# Altium schematic symbol library MyLibraryV2.SchLib: 572 symbols (part 4 of 11)
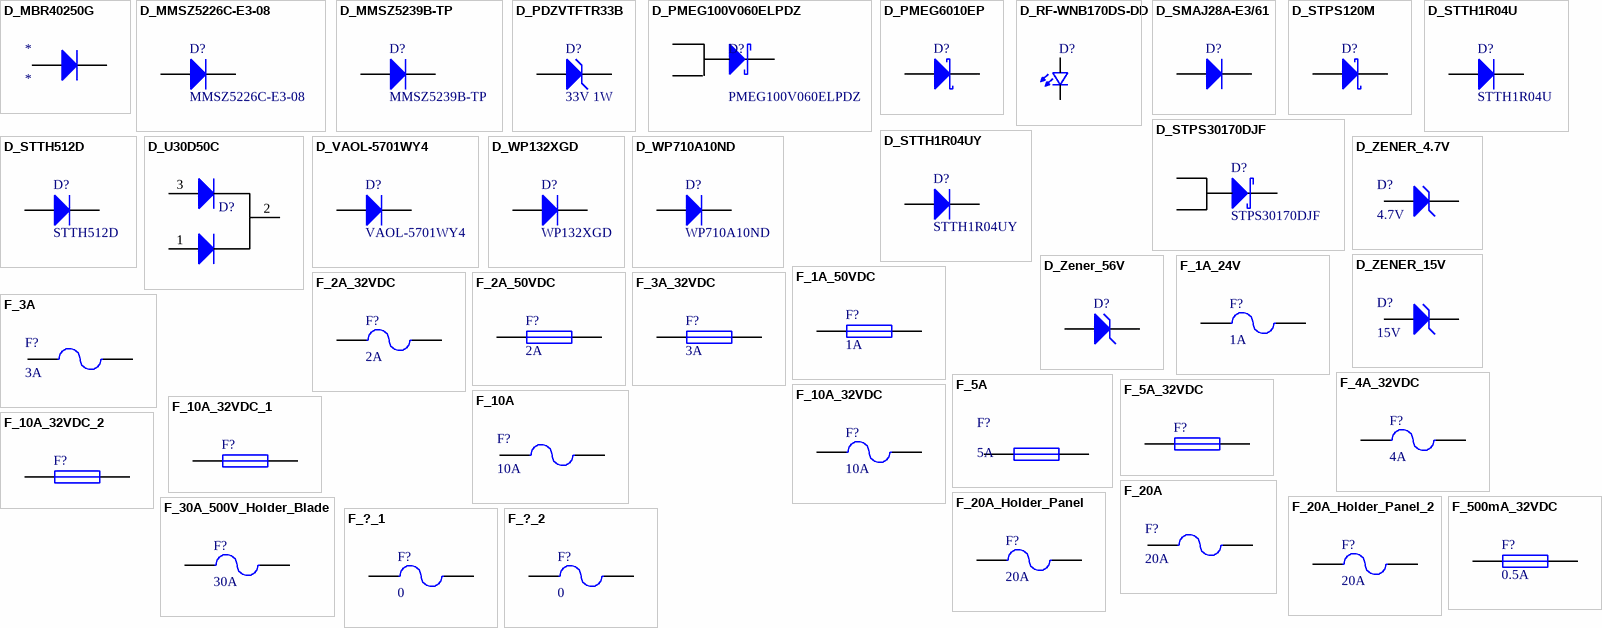
[diagram p19: symbols D_MBR40250G to F_?_2]

## D_PDZVTFTR33B
designator D?, comment 33V 1W
Diode SMD SOD-128; Manufacturer: Rohm; Manufacturer Part Number: PDZVTFTR33B; RoHS Compliant: Yes; ComponentLink1URL: http://www.farnell.com/datasheets/2721655.pdf?src-supplier=Farnell; ComponentLink1Description: http://www.farnell.com/datasheets/2721655.pdf?src-supplier=Farnell; ComponentLink2URL: https://www.rohm.com/datasheet/PDZVTF33B/pdzvtftr33b-e?src-supplier=Digikey; ComponentLink2Description: https://www.rohm.com/datasheet/PDZVTF33B/pdzvtftr33b-e?src-supplier=Digikey; Supplier 1: Digikey; Supplier Part Number 1: PDZVTFTR33BCT-ND; RoHS: Yes; Category: Zener Diodes; Stock 1: 6863; Pricing 1: 1=0,43, 10=0,336, 100=0,2018, 500=0,18684, 1000=0,12706 (USD); Value: 33V 1W
footprint D_SOD-128
pins: 1 K, 2 A

## D_PMEG100V060ELPDZ
designator D?, comment PMEG100V060ELPDZ
Diode SMD TO-277 SCHOTTKY 100V 6A CFP15; Manufacturer: Nexperia; Manufacturer Part Number: PMEG100V060ELPDAZ; RoHS Compliant: Yes; Supplier 1: Digikey; Supplier Part Number 1: 1727-7640-1-ND; RoHS: Yes; Category: Schottky Diodes; Stock 1: 11185; Pricing 1: 1=0,58, 10=0,504, 100=0,3491, 500=0,29166, 1000=0,24822, 2000=0,22107 (USD); Value: PMEG100V060ELPDZ
footprint D_TO-277_bigger (Diodo)
pins: 1 A "Anode", 2 A "Anode", 3 K "Cathode"

## D_PMEG6010EP
designator D?, comment PMEG6010EP  (value not drawn)
(Modificar) Diode Schottky; Value: PMEG6010EP
footprint D_DO-214AA_SMB
pins: 1 K, 2 A

## D_RF-WNB170DS-DD
designator D?, comment RF-WNB170DS-DD  (value not drawn)
Diode SMD 0805 LED; Manufacturer: Refond Optoelectronics; Viewing Angle: 140°; Supplier 1: Digikey; Supplier Part Number 1: 4784-RF-WNB170DS-DDCT-ND; Manufacturer Part Number: RF-WNB170DS-DD; RoHS: No; Category: Uncategorized; Stock 1: 88661; Pricing 1: 1=0,2, 10=0,108, 100=0,0512, 500=0,04378, 1000=0,03368, 2000=0,03166 (USD); Value: RF-WNB170DS-DD
footprint D_LED_0805_2013 (Chip Capacitor; Body 2.0 x 1.3 mm (LxW typ))
pins: 1 K2, 2 A2

## D_SMAJ28A-E3/61
designator D?, comment SMAJ28A-E3/61  (value not drawn)
Diode SMD DO-214AC_SMA; Manufacturer: Vishay Semiconductors; Origin: CHINA; Direction: Unidirectional; Reverse Breakdown Voltage: 31.1V; Number of Elements: 1; Operating Supply Voltage: 28V; Max Surge Current: 8.8A; Clamping Voltage: 45.4V; Peak Pulse Power: 400W; Test Current: 1mA; Max Reverse Leakage Current: 1uA; Max Forward Surge Current (Ifsm): 40A; Max Breakdown Voltage: 34.4V; Published: 8-Jun-2000; LatestRevisionDate: 17-Jul-2002; LatestRevisionNote: Re-released for DXP Platform.; PackageVersion: Sep-1996; PackageReference: SMC; Publisher: Altium Limited; PackageDescription: DO-214-AB/SMC; 2 C-Bend Leads; Body 7.9 x 5.9 mm, inc. leads (LxW); Code_JEDEC: DO-214-AB; Supplier 1: Digi-Key; Supplier Part Number 1: ES1ME-TPMSCT-ND; Case/Package: DO-214AC; Pins: 2; Min Operating Temperature: -55°C; Max Operating Temperature: 150°C; Package Quantity: 1800; Packaging: Tape and Reel; Reverse Standoff Voltage: 28V; Polarity: Unidirectional; Breakdown Voltage: 31.1V; Number of Channels: 1; Peak Pulse Current: 8.8A; Min Breakdown Voltage: 31.1V; Max Power Dissipation: 400W; Leakage Current: 1uA; Series: SMAJ; Termination: SMD/SMT; Power Dissipation: 400W; Voltage Rating (DC): 28V; Clamping Voltage-Max: 45.4V; Length: 4.5mm; Width: 2.79mm; Height: 2.09mm; Radiation Hardening: No; RoHS Compliant: Yes; Lead Free: Lead Free; Reach SVHC Compliant: Unknown; ComponentLink1URL: https://datasheet.ciiva.com/4247/2smaj50a-4247660.pdf?src-supplier=Arrow+Electronics; ComponentLink1Description: https://datasheet.ciiva.com/4247/2smaj50a-4247660.pdf?src-supplier=Arrow+Electronics; Supplier 2: Mouser; Supplier Part Number 2: 625-SMAJ28A-E3; Manufacturer Part Number: SMAJ28A-E3/61; RoHS: Yes; Category: TVS Diodes; Stock 2: 9105; Pricing 2: 1=0,41, 10=0,299, 50=0,299, 100=0,133, 1000=0,106, 10000=0,081 (USD); Value: SMAJ28A-E3/61
footprint D_DO-214AC_SMA
pins: 1 K, 2 A

## D_STPS120M
designator D?, comment STPS120M  (value not drawn)
(Modificar) Diode Schottky; Value: STPS120M
footprint D_DO-214AA_SMB
pins: 1 K, 2 A

## D_STPS30170DJF
designator D?, comment STPS30170DJF
Diode SMD TDSON8; Manufacturer: STMicroelectronics; Manufacturer Part Number: STPS30170DJF-TR; Forward Current: 30A; Max Reverse Current: 15uA; Max Repetitive Reverse Voltage (Vrrm): 170V; Peak Non-Repetitive Surge Current: 200A; Forward Voltage: 950mV; Max Reverse Leakage Current: 12mA; Mounting Technology: Surface Mount; Case/Package: SMD/SMT; Pins: 8; Min Operating Temperature: -65°C; Max Operating Temperature: 150°C; Max Surge Current: 200A; Packaging: Tape and Reel; Package Quantity: 1; Average Rectified Current: 30A; Max Forward Surge Current (Ifsm): 200A; Max Reverse Voltage (DC): 170V; Series: -; Radiation Hardening: No; Reach SVHC Compliant: No; Lead Free: Lead Free; RoHS Compliant: Yes; ComponentLink1URL: https://datasheet.ciiva.com/4714/cd00255367-116971-4714165.pdf?src-supplier=Mouser; ComponentLink1Description: https://datasheet.ciiva.com/4714/cd00255367-116971-4714165.pdf?src-supplier=Mouser; ComponentLink2URL: https://datasheet.ciiva.com/16217/cd00255367-16217713.pdf?src-supplier=Future+Electronics; ComponentLink2Description: https://datasheet.ciiva.com/16217/cd00255367-16217713.pdf?src-supplier=Future+Electronics; ComponentLink3URL: https://datasheet.ciiva.com/6381/cd00255367-6381471.pdf?src-supplier=Digikey; ComponentLink3Description: https://datasheet.ciiva.com/6381/cd00255367-6381471.pdf?src-supplier=Digikey; ComponentLink4URL: https://datasheet.ciiva.com/923/cd00255367-923446.pdf?src-supplier=Digikey; ComponentLink4Description: https://datasheet.ciiva.com/923/cd00255367-923446.pdf?src-supplier=Digikey; ComponentLink5URL: https://datasheet.ciiva.com/6381/cd00255367-6381468.pdf?src-supplier=Digikey; ComponentLink5Description: https://datasheet.ciiva.com/6381/cd00255367-6381468.pdf?src-supplier=Digikey; Supplier 1: Digikey; Supplier Part Number 1: 497-10344-1-ND; RoHS: Yes; Category: Rectifier Diodes; Stock 1: 3600; Pricing 1: 1=1,46, 10=1,192, 100=0,9273, 500=0,786, 1000=0,64028 (USD); Value: STPS30170DJF
footprint D_TDSON 8
pins: 1 A, 2 K, 3 A

## D_STTH1R04U
designator D?, comment STTH1R04U
(Modificar) iode SMD ultrafast recovery diode; Value: STTH1R04U
footprint STTH1R04
pins: 1 A, 2 K

## D_STTH1R04UY
designator D?, comment STTH1R04UY
Diode SMD DO-214AA_SMB; Manufacturer: STMicroelectronics; Forward Current: 1A; Max Reverse Current: 5uA; Max Surge Current: 30A; Reverse Voltage (DC): 400V; Reverse Recovery Time: 30ns; Forward Voltage: 1.6V; Recovery Time: 14ns; Mounting Technology: Surface Mount; Case/Package: SMB; Pins: 2; Weight: 0.00328oz; Min Operating Temperature: -40°C; Max Operating Temperature: 175°C; Package Quantity: 2500; Packaging: Tape and Reel; Average Rectified Current: 1A; Peak Non-Repetitive Surge Current: 30A; Max Repetitive Reverse Voltage (Vrrm): 400V; Max Reverse Voltage (DC): 400V; Series: -; Radiation Hardening: No; RoHS Compliant: Yes; ComponentLink1URL: https://datasheet.ciiva.com/29591/sgdiodeauto-29591754.pdf?src-supplier=Digikey; ComponentLink1Description: https://datasheet.ciiva.com/29591/sgdiodeauto-29591754.pdf?src-supplier=Digikey; ComponentLink2URL: https://datasheet.ciiva.com/29591/sgdiodeauto-29591755.pdf?src-supplier=Digikey; ComponentLink2Description: https://datasheet.ciiva.com/29591/sgdiodeauto-29591755.pdf?src-supplier=Digikey; ComponentLink3URL: https://datasheet.ciiva.com/29591/sgdiodeauto-29591756.pdf?src-supplier=Digikey; ComponentLink3Description: https://datasheet.ciiva.com/29591/sgdiodeauto-29591756.pdf?src-supplier=Digikey; Supplier 1: Mouser; Supplier Part Number 1: 511-STTH1R04UY; Manufacturer Part Number: STTH1R04UY; RoHS: Yes; Category: Rectifier Diodes; Stock 1: 5809; Pricing 1: 1=0,59, 10=0,475, 50=0,475, 100=0,35, 1000=0,222, 10000=0,174 (USD); Value: STTH1R04UY
footprint D_DO-214AA_SMB
pins: 1 K, 2 A

## D_STTH512D
designator D?, comment STTH512D
Diode SMD TO-220-AC; Manufacturer: STMicroelectronics; Forward Current: 5A; Max Reverse Current: 5uA; Reverse Recovery Time: 95ns; Max Repetitive Reverse Voltage (Vrrm): 1.2kV; Peak Non-Repetitive Surge Current: 55A; Forward Voltage: 2.2V; Polarity: Standard; Output Current: 30A; Mounting Technology: Through Hole; Case/Package: TO-220AC; Pins: 2; Min Operating Temperature: -65°C; Max Operating Temperature: 175°C; Max Surge Current: 55A; Packaging: Rail/Tube; Package Quantity: 50; Recovery Time: 95ns; Average Rectified Current: 5A; Max Forward Surge Current (Ifsm): 55A; Voltage Rating (DC): 1.2kV; Current Rating: 5A; Reverse Voltage: 1.2kV; Max Reverse Voltage (DC): 1.2kV; Series: -; Reverse Recovery Time-Max: 95ns; Length: 10.4mm; Width: 4.6mm; Height: 9.3mm; Reach SVHC Compliant: No; Lead Free: Lead Free; RoHS Compliant: Yes; ComponentLink1URL: https://datasheet.ciiva.com/916/cd00096465-916493.pdf?src-supplier=Digikey; ComponentLink1Description: https://datasheet.ciiva.com/916/cd00096465-916493.pdf?src-supplier=Digikey; ComponentLink2URL: https://datasheet.ciiva.com/14168/cd00096465-14168989.pdf?src-supplier=Distrelec; ComponentLink2Description: https://datasheet.ciiva.com/14168/cd00096465-14168989.pdf?src-supplier=Distrelec; ComponentLink3URL: https://datasheet.ciiva.com/7964/1887750-7964060.pdf?src-supplier=Element14; ComponentLink3Description: https://datasheet.ciiva.com/7964/1887750-7964060.pdf?src-supplier=Element14; Supplier 1: Mouser; Supplier Part Number 1: 511-STTH512D; Manufacturer Part Number: STTH512D; RoHS: Yes; Category: Rectifier Diodes; Stock 1: 4528; Pricing 1: 1=1,82, 10=1,51, 50=1,51, 100=1,21, 1000=0,762, 10000=0,744 (USD); Value: STTH512D
footprint D_TO-220-2-TO-220AC
pins: 1 K, 2 A

## D_U30D50C
designator D?, comment U30D50C  (value not drawn)
(Modificar) Diode Catodo Comun; Value: U30D50C
footprint TO-247-HORIZ
pins: 1 A, 2 K, 3 A

## D_VAOL-5701WY4
designator D?, comment VAOL-5701WY4
(Modificar) Diode THT LED 5MM; Manufacturer: Visual Communications; Color: White; Lens Color: Colorless,Clear; Luminous Intensity: 1800mcd; Viewing Angle: 100°; Forward Voltage: 3.5V; Lens Style: Dome,Round,Flat; Test Current: 20mA; Lens Transparency: Clear; Mounting Technology: Through Hole; Case/Package: Radial; Min Operating Temperature: -40°C; Max Operating Temperature: 80°C; Illumination Color: White; Packaging: Bulk; Forward Current: 20mA; Series: -; Height: 7.05mm; Lens Size: 5mm; RoHS Compliant: Yes; Reach SVHC Compliant: Unknown; ComponentLink1URL: https://datasheet.ciiva.com/29561/vaol-5701wy4-led-5mm-white-29561899.pdf?src-supplier=Digikey; ComponentLink1Description: https://datasheet.ciiva.com/29561/vaol-5701wy4-led-5mm-white-29561899.pdf?src-supplier=Digikey; ComponentLink2URL: https://datasheet.ciiva.com/7621/1780695-7621860.pdf?src-supplier=Element14; ComponentLink2Description: https://datasheet.ciiva.com/7621/1780695-7621860.pdf?src-supplier=Element14; Supplier 1: Digikey; Supplier Part Number 1: VAOL-5701WY4-ND; Manufacturer Part Number: VAOL-5701WY4; RoHS: Yes; Category: LEDs; Stock 1: 18314; Pricing 1: 1=0,94, 10=0,615, 100=0,403, 1000=0,31815, 5000=0,28634, 10000=0,28209 (USD); Value: VAOL-5701WY4
footprint D_LED-5MM
pins: 1 K, 2 A

## D_WP132XGD
designator D?, comment WP132XGD
Diode THT LED 3.8MM; Manufacturer: Kingbright; Color: Green; Luminous Intensity: 25mcd; Lens Style: Dome,Round,Domed,Diffused,Tinted; Viewing Angle: 60°; Forward Voltage: 2.2V; Dominant Wavelength: 568nm; Test Current: 20mA; Forward Current: 25mA; Lens Transparency: Diffused; Lens Size: 3mm; Mounting Technology: Through Hole; Case/Package: Radial; Pins: 1; Lens Color: Green; Min Operating Temperature: -40°C; Max Operating Temperature: 85°C; Package Quantity: 1000; Illumination Color: Green; Packaging: Bulk; Wavelength: 568nm; Series: -; Width: 3.8mm; Height: 5.2mm; Lead Free: Lead Free; RoHS Compliant: Yes; ComponentLink1URL: https://datasheet.ciiva.com/2114/wp132xgd-2114331.pdf?src-supplier=Digikey; ComponentLink1Description: https://datasheet.ciiva.com/2114/wp132xgd-2114331.pdf?src-supplier=Digikey; ComponentLink2URL: https://datasheet.ciiva.com/13501/wp132xgd-50469-13501752.pdf?src-supplier=Mouser; ComponentLink2Description: https://datasheet.ciiva.com/13501/wp132xgd-50469-13501752.pdf?src-supplier=Mouser; ComponentLink3URL: https://datasheet.ciiva.com/14604/70062928-14604013.pdf?src-supplier=Allied+Electronics; ComponentLink3Description: https://datasheet.ciiva.com/14604/70062928-14604013.pdf?src-supplier=Allied+Electronics; ComponentLink4URL: https://datasheet.ciiva.com/16393/wp132xgd-16393499.pdf?src-supplier=Future+Electronics; ComponentLink4Description: https://datasheet.ciiva.com/16393/wp132xgd-16393499.pdf?src-supplier=Future+Electronics; Supplier 1: Digikey; Supplier Part Number 1: 754-1210-ND; Manufacturer Part Number: WP132XGD; RoHS: Yes; Category: LEDs; Stock 1: 20772; Pricing 1: 1=0,34, 10=0,272, 100=0,1221, 2000=0,07878, 6000=0,0709, 10000=0,06302 (USD); Value: WP132XGD
footprint D_LED-3.8MM
pins: 1 K, 2 A

## D_WP710A10ND
designator D?, comment WP710A10ND
Diode THT LED 3.8MM; Manufacturer: Kingbright; Color: Orange; Forward Current: 20mA; Forward Voltage: 2.05V; Luminous Intensity: 20mcd; Lens Style: Dome,Round,Domed,Diffused,Tinted; Viewing Angle: 40°; Dominant Wavelength: 602nm; Lens Transparency: Diffused; Lens Size: 3mm; Mounting Technology: Through Hole; Case/Package: Radial; Lens Color: Orange; Min Operating Temperature: -40°C; Max Operating Temperature: 85°C; Packaging: Bulk; Package Quantity: 1000; Test Current: 20mA; Series: -; Illumination Color: Orange; Height: 5.9mm; RoHS Compliant: Yes; ComponentLink1URL: https://datasheet.ciiva.com/13500/wp710a10nd-8459-13500874.pdf?src-supplier=Mouser; ComponentLink1Description: https://datasheet.ciiva.com/13500/wp710a10nd-8459-13500874.pdf?src-supplier=Mouser; ComponentLink2URL: https://datasheet.ciiva.com/2120/wp710a10nd-2120872.pdf?src-supplier=Digikey; ComponentLink2Description: https://datasheet.ciiva.com/2120/wp710a10nd-2120872.pdf?src-supplier=Digikey; Supplier 1: Digikey; Supplier Part Number 1: 754-1892-ND; Manufacturer Part Number: WP710A10ND; RoHS: Yes; Category: LEDs; Stock 1: 2871; Pricing 1: 1=0,35, 10=0,279, 100=0,1252, 2000=0,0808, 6000=0,07272, 10000=0,06464 (USD); Value: WP710A10ND
footprint D_LED-3.8MM
pins: 1 K, 2 A

## D_ZENER_4.7V
designator D?, comment 4.7V
Value: 4.7V
footprint D_DO-41
pins: 1 K, 2 A

## D_ZENER_15V
designator D?, comment 15V
Value: 15V
footprint D_DO-41
pins: 1 K, 2 A

## D_Zener_56V
designator D?, comment 56V  (value not drawn)
(Modificar) Diode SMD SMA Zener; Value: 56V
footprint D_DO-214AC_SMA
pins: 1 K, 2 A

## F_1A_24V
designator F?, comment 1A
Fuse THT 15.5x6; Manufacturer: Keystone Electronics; Manufacturer Part Number: 3568; Color: Black; Material: Brass,Tin,Nylon; Body Material: Nylon; Number of Poles: 1; Voltage: 500V; Current Rating: 20A; Illumination Type: Illuminated; Fuse Type: Automotive; Fuse Size: Mini ATO, ATC; Approvals: UL; Mounting Technology: Vertical,PCB; Contact Material: Brass,Tin; Contact Plating: Tin; Min Operating Temperature: -50°C; Max Operating Temperature: 145°C; Series: MINI® 297; Package Quantity: 1; Termination: PC Pin; Voltage Rating (AC): 500V; Number of Circuits: 1; Fuse Current: 20A; Orientation: Vertical; Reach SVHC Compliant: No; Lead Free: Lead Free; Flammability Rating: UL94 V-0; ComponentLink1URL: https://datasheet.ciiva.com/16294/m60-2p40-16294706.pdf?src-supplier=Future+Electronics; ComponentLink1Description: https://datasheet.ciiva.com/16294/m60-2p40-16294706.pdf?src-supplier=Future+Electronics; ComponentLink2URL: https://datasheet.ciiva.com/16874/70182101-16874378.pdf?src-supplier=Allied+Electronics; ComponentLink2Description: https://datasheet.ciiva.com/16874/70182101-16874378.pdf?src-supplier=Allied+Electronics; Supplier 1: Mouser; Supplier Part Number 1: 534-3568; RoHS: Yes; Category: Fuse Holders; Stock 1: 176176; Pricing 1: 1=1,15, 10=1,15, 50=0,962, 100=0,902, 1000=0,65, 10000=0,574 (USD); Value: 1A
footprint F_15.5X6
pins: 1, 2

## F_1A_50VDC
designator F?, comment 1A
Fuse SMD 0805; Manufacturer: Vishay Beyschlag; Manufacturer Part Number: MFU0805FF01000P500; Origin: TAIWAN; Body Material: Ceramic; Voltage Rating (DC): 32V; DC Cold Resistance: 185mR; Fuse Type: Board Mount (Cartridge Style Excluded); Primary Type: Chip; Approvals: UL; Published: 8-Jun-2000; LatestRevisionDate: 17-Jul-2002; LatestRevisionNote: Re-released for DXP Platform.; PackageReference: PIN-W2/E2.8; Publisher: Altium Limited; PackageDescription: Thru-Hole; 2 Leads; Supplier 1: Digi-Key; Supplier Part Number 1: SF-1206S200-2CT-ND; Mounting Technology: Surface Mount,PCB; Case/Package: 0805; Pins: 2; Min Operating Temperature: 15°C; Max Operating Temperature: 125°C; Current Rating: 1A; Packaging: Tape and Reel; Package Quantity: 5000; Termination: SMD/SMT; Series: MFU; Length: 2mm; Width: 1.25mm; Height: 0.018inch; Lead Free: Lead Free; RoHS Compliant: Yes; ComponentLink1URL: https://datasheet.ciiva.com/18427/70121790-18427787.pdf?src-supplier=Allied+Electronics; ComponentLink1Description: https://datasheet.ciiva.com/18427/70121790-18427787.pdf?src-supplier=Allied+Electronics; ComponentLink2URL: https://datasheet.ciiva.com/4485/mfuserie-239895-4485870.pdf?src-supplier=Mouser; ComponentLink2Description: https://datasheet.ciiva.com/4485/mfuserie-239895-4485870.pdf?src-supplier=Mouser; ComponentLink3URL: https://datasheet.ciiva.com/11337/mfuserie-11337787.pdf?src-supplier=Avnet; ComponentLink3Description: https://datasheet.ciiva.com/11337/mfuserie-11337787.pdf?src-supplier=Avnet; Supplier 2: Mouser; Supplier Part Number 2: 594-MFU0805-FF-1.0; RoHS: Yes; Category: Fuses; Stock 2: 6692; Pricing 2: 1=0,43, 10=0,35, 50=0,35, 100=0,264, 1000=0,198, 10000=0,17 (USD); Value: 1A
footprint F_0805_2012 (Chip Fuse; Body 2.0 x 1.3 mm (LxW typ))
pins: 1, 2

## F_2A_32VDC
designator F?, comment 2A
Fuse THT Holder Blade; Manufacturer: Littelfuse; Manufacturer Part Number: 0297002.WXNV; Color: Grey; Body Material: Polyamide; Voltage Rating (DC): 32V; DC Cold Resistance: 55.6mR; Fuse Type: Automotive; Fuse Size: 8.8mm x 10.9mm x 3.8mm; Mounting Technology: Holder,Socket; Pins: 2; Min Operating Temperature: -40°C; Max Operating Temperature: 125°C; Current Rating: 2A; Voltage Rating: 32V; Packaging: Bulk; Package Quantity: 3000; Fuse Current: 2A; Working Voltage: 32V; Termination: Blade; Series: MINI® 297; Length: 10.9mm; Width: 8.8mm; Height: 3.8mm; Depth: 3.8mm; Size: 10.9mm; Radiation Hardening: No; Lead Free: Lead Free; RoHS Compliant: Yes; Reach SVHC Compliant: Unknown; ComponentLink1URL: https://datasheet.ciiva.com/30471/0900766b8128f454-30471601.pdf?src-supplier=Rs; ComponentLink1Description: https://datasheet.ciiva.com/30471/0900766b8128f454-30471601.pdf?src-supplier=Rs; ComponentLink2URL: https://datasheet.ciiva.com/22641/1736864-22641093.pdf?src-supplier=Element14; ComponentLink2Description: https://datasheet.ciiva.com/22641/1736864-22641093.pdf?src-supplier=Element14; ComponentLink3URL: https://datasheet.ciiva.com/15187/getdatasheetpartid-116416-15187125.pdf?src-supplier=Verical; ComponentLink3Description: https://datasheet.ciiva.com/15187/getdatasheetpartid-116416-15187125.pdf?src-supplier=Verical; ComponentLink4URL: https://datasheet.ciiva.com/1548/littelfuse-automotive-blade-fuse-mini-32v-1548080.pdf?src-supplier=Element14; ComponentLink4Description: https://datasheet.ciiva.com/1548/littelfuse-automotive-blade-fuse-mini-32v-1548080.pdf?src-supplier=Element14; ComponentLink5URL: https://datasheet.ciiva.com/16382/297-16382168.pdf?src-supplier=Future+Electronics; ComponentLink5Description: https://datasheet.ciiva.com/16382/297-16382168.pdf?src-supplier=Future+Electronics; Supplier 1: Mouser; Supplier Part Number 1: 576-0297002.WXNV; RoHS: Yes; Category: Fuses; Stock 1: 32064; Pricing 1: 1=0,31, 10=0,238, 50=0,238, 100=0,201, 1000=0,159, 10000=0,13 (USD); Value: 2A
footprint F_BLADE
pins: 1, 2

## F_2A_50VDC
designator F?, comment 2A
Fuse SMD 0805; Manufacturer: Mitsubishi Kamaya; Manufacturer Part Number: FCC20202AATP; Origin: TAIWAN; Published: 8-Jun-2000; LatestRevisionDate: 17-Jul-2002; LatestRevisionNote: Re-released for DXP Platform.; PackageReference: PIN-W2/E2.8; Publisher: Altium Limited; PackageDescription: Thru-Hole; 2 Leads; Supplier 1: Digi-Key; Supplier Part Number 1: SF-1206S200-2CT-ND; Lead Free: Lead Free; Supplier 2: Digikey; Supplier Part Number 2: 2315-FCC20202AATPCT-ND; RoHS: No; Category: Fuses; Stock 2: 17922; Pricing 2: 1=0,1, 5=0,056, 10=0,054, 50=0,0484, 100=0,045, 250=0,04, 500=0,03332, 1000=0,03166 (USD); Value: 2A
footprint F_0805_2012 (Chip Fuse; Body 2.0 x 1.3 mm (LxW typ))
pins: 1, 2

## F_3A
designator F?, comment 3A
Fuse THT 15.5x6; Value: 3A
footprint F_15.5X6
pins: 1, 2

## F_3A_32VDC
designator F?, comment 3A
Fuse SMD 0805; Manufacturer: Vishay; Manufacturer Part Number: MFU0805FF03000P100; Origin: TAIWAN; Voltage Rating (DC): 32V; DC Cold Resistance: 34mR; Fuse Type: Board Mount (Cartridge Style Excluded); Approvals: UL; Published: 8-Jun-2000; LatestRevisionDate: 17-Jul-2002; LatestRevisionNote: Re-released for DXP Platform.; PackageReference: PIN-W2/E2.8; Publisher: Altium Limited; PackageDescription: Thru-Hole; 2 Leads; Supplier 1: Digi-Key; Supplier Part Number 1: SF-1206S200-2CT-ND; Mounting Technology: Surface Mount; Case/Package: 0805; Pins: 2; Case Code (Metric): 2012; Case Code (Imperial): 0805; Min Operating Temperature: -55°C; Max Operating Temperature: 125°C; Package Quantity: 1; Current Rating: 3A; Packaging: Cut Tape; Working Voltage: 32V; Fuse Current: 3A; Series: MFU; Length: 0.079inch; Width: 0.049inch; Height: 0.018inch; Reach SVHC Compliant: No; Lead Free: Lead Free; RoHS Compliant: Yes; ComponentLink1URL: https://datasheet.ciiva.com/11337/mfuserie-11337807.pdf?src-supplier=Avnet; ComponentLink1Description: https://datasheet.ciiva.com/11337/mfuserie-11337807.pdf?src-supplier=Avnet; ComponentLink2URL: https://datasheet.ciiva.com/8057/1480005-8057913.pdf?src-supplier=Element14; ComponentLink2Description: https://datasheet.ciiva.com/8057/1480005-8057913.pdf?src-supplier=Element14; ComponentLink3URL: https://datasheet.ciiva.com/16291/mfuserie-16291366.pdf?src-supplier=Future+Electronics; ComponentLink3Description: https://datasheet.ciiva.com/16291/mfuserie-16291366.pdf?src-supplier=Future+Electronics; Supplier 2: Mouser; Supplier Part Number 2: 594-MFU0805FF03000P1; RoHS: Yes; Category: Fuses; Stock 2: 4310; Pricing 2: 1=0,48, 10=0,393, 50=0,393, 100=0,297, 1000=0,222, 10000=0,192 (USD); Value: 3A
footprint F_0805_2012 (Chip Fuse; Body 2.0 x 1.3 mm (LxW typ))
pins: 1, 2

## F_4A_32VDC
designator F?, comment 4A
Fuse THT 15.5x6; Manufacturer: Littelfuse; Manufacturer Part Number: 0297004.WXT; Color: Pink; Voltage Rating (DC): 32V; DC Cold Resistance: 23.48R; Fuse Type: Automotive; Mounting Technology: Holder; Min Operating Temperature: -40°C; Max Operating Temperature: 125°C; Packaging: Bulk; Series: MINI® 297; RoHS Compliant: Yes; ComponentLink1URL: http://www.mouser.com/ds/2/240/Littelfuse_MINI_Datasheet-1077557.pdf?src-supplier=Mouser; ComponentLink1Description: http://www.mouser.com/ds/2/240/Littelfuse_MINI_Datasheet-1077557.pdf?src-supplier=Mouser; ComponentLink2URL: http://www.littelfuse.com/~/media/automotive/datasheets/fuses/passenger-car-and-commercial-vehicle/blade-fuses/littelfuse_mini_datasheet.pdf?src-supplier=Digikey; ComponentLink2Description: http://www.littelfuse.com/~/media/automotive/datasheets/fuses/passenger-car-and-commercial-vehicle/blade-fuses/littelfuse_mini_datasheet.pdf?src-supplier=Digikey; Supplier 1: Mouser; Supplier Part Number 1: 576-0297004.WXT; RoHS: Yes; Category: Fuses; Stock 1: 2541; Pricing 1: 1=0,31, 10=0,258, 50=0,258, 100=0,214, 1000=0,169, 10000=0,127 (USD); Value: 4A
footprint F_15.5X6
pins: 1, 2

## F_5A
designator F?, comment 5A
Fuse SMD 0805; Value: 5A
footprint F_0805_2012 (Chip Fuse; Body 2.0 x 1.3 mm (LxW typ))
pins: 1, 2

## F_5A_32VDC
designator F?, comment 5A  (value not drawn)
Fuse SMD 1206; Manufacturer: Mitsubishi Kamaya; Manufacturer Part Number: FHC32502ADTP; Lead Free: Lead Free; Supplier 1: Mouser; Supplier Part Number 1: 791-FHC32502ADTP; RoHS: No; Category: Fuses; Stock 1: 4748; Pricing 1: 1=0,17, 10=0,168, 50=0,168, 100=0,139, 1000=0,098, 10000=0,072 (USD); Value: 5A
footprint F_1206_3216
pins: 1, 2

## F_10A
designator F?, comment 10A
Fuse THT 15.5x6; Value: 10A
footprint F_15.5X6
pins: 1, 2

## F_10A_32VDC
designator F?, comment 10A
Fuse THT Holder Blade; Manufacturer: Littelfuse; Manufacturer Part Number: 0297010.WXT; Color: Red; Voltage Rating (DC): 32V; DC Cold Resistance: 7.42R; Fuse Type: Automotive; Approvals: UR; Mounting Technology: Holder; Min Operating Temperature: -40°C; Max Operating Temperature: 125°C; Packaging: Bulk; Current Rating: 10A; Series: MINI® 297; Length: 0.429inch; Width: 0.15inch; Height: 0.346inch; RoHS Compliant: Yes; ComponentLink1URL: http://www.mouser.com/ds/2/240/Littelfuse_MINI_Datasheet-1077557.pdf?src-supplier=Mouser; ComponentLink1Description: http://www.mouser.com/ds/2/240/Littelfuse_MINI_Datasheet-1077557.pdf?src-supplier=Mouser; ComponentLink2URL: https://www.littelfuse.com/~/media/automotive/datasheets/fuses/passenger-car-and-commercial-vehicle/blade-fuses/littelfuse_mini_datasheet.pdf?src-supplier=Digikey; ComponentLink2Description: https://www.littelfuse.com/~/media/automotive/datasheets/fuses/passenger-car-and-commercial-vehicle/blade-fuses/littelfuse_mini_datasheet.pdf?src-supplier=Digikey; ComponentLink3URL: http://www.littelfuse.com/~/media/automotive/datasheets/fuses/passenger-car-and-commercial-vehicle/blade-fuses/littelfuse_mini_datasheet.pdf?src-supplier=Digikey; ComponentLink3Description: http://www.littelfuse.com/~/media/automotive/datasheets/fuses/passenger-car-and-commercial-vehicle/blade-fuses/littelfuse_mini_datasheet.pdf?src-supplier=Digikey; Supplier 1: Mouser; Supplier Part Number 1: 576-0297010.WXT; RoHS: Yes; Category: Fuses; Stock 1: 8530; Pricing 1: 1=0,31, 10=0,258, 50=0,258, 100=0,214, 1000=0,169, 10000=0,124 (USD); Value: 10A
footprint F_BLADE
pins: 1, 2

## F_10A_32VDC_1
designator F?, comment 10A  (value not drawn)
Fuse SMD 1206; Manufacturer: Bel; Manufacturer Part Number: 0685H9100-01; Fuse Type: Board Mount (Cartridge Style Excluded); Voltage Rating (AC): 125V; Voltage Rating (DC): 32V; DC Cold Resistance: 3.9mR; Approvals: cURus; Mounting Technology: Surface Mount; Case/Package: 1206; Case Code (Imperial): 1206; Case Code (Metric): 3216; Min Operating Temperature: -55°C; Max Operating Temperature: 125°C; Packaging: Cut Tape; Current Rating: 10A; Series: C1H; RoHS Compliant: Yes; ComponentLink1URL: http://www.farnell.com/datasheets/2571626.pdf?src-supplier=Farnell; ComponentLink1Description: http://www.farnell.com/datasheets/2571626.pdf?src-supplier=Farnell; ComponentLink2URL: http://www.farnell.com/datasheets/2571626.pdf?src-supplier=Element14; ComponentLink2Description: http://www.farnell.com/datasheets/2571626.pdf?src-supplier=Element14; ComponentLink3URL: http://www.farnell.com/datasheets/2571626.pdf?src-supplier=Newark; ComponentLink3Description: http://www.farnell.com/datasheets/2571626.pdf?src-supplier=Newark; ComponentLink4URL: https://belfuse.com/resources/datasheets/circuitprotection/ds-cp-c1h-series.pdf?src-supplier=Digikey; ComponentLink4Description: https://belfuse.com/resources/datasheets/circuitprotection/ds-cp-c1h-series.pdf?src-supplier=Digikey; ComponentLink5URL: https://belfuse.com/resources/StewartConnector/C1H.pdf?src-supplier=Digikey; ComponentLink5Description: https://belfuse.com/resources/StewartConnector/C1H.pdf?src-supplier=Digikey; Supplier 1: Digikey; Supplier Part Number 1: 507-1942-1-ND; RoHS: Yes; Category: Fuses; Stock 1: 192825; Pricing 1: 1=0,32, 5=0,312, 10=0,298, 50=0,2662, 100=0,2479, 250=0,22036, 500=0,18362, 1000=0,17444 (USD); Value: 10A
footprint F_1206_3216
pins: 1, 2

## F_10A_32VDC_2
designator F?, comment 10A  (value not drawn)
Fuse SMD 1206; Manufacturer: Bel; Manufacturer Part Number: 0685H9100-01; Fuse Type: Board Mount (Cartridge Style Excluded); Voltage Rating (AC): 125V; Voltage Rating (DC): 32V; DC Cold Resistance: 3.9mR; Approvals: cURus; Mounting Technology: Surface Mount; Case/Package: 1206; Case Code (Imperial): 1206; Case Code (Metric): 3216; Min Operating Temperature: -55°C; Max Operating Temperature: 125°C; Packaging: Cut Tape; Current Rating: 10A; Series: C1H; RoHS Compliant: Yes; ComponentLink1URL: http://www.farnell.com/datasheets/2571626.pdf?src-supplier=Farnell; ComponentLink1Description: http://www.farnell.com/datasheets/2571626.pdf?src-supplier=Farnell; ComponentLink2URL: http://www.farnell.com/datasheets/2571626.pdf?src-supplier=Element14; ComponentLink2Description: http://www.farnell.com/datasheets/2571626.pdf?src-supplier=Element14; ComponentLink3URL: http://www.farnell.com/datasheets/2571626.pdf?src-supplier=Newark; ComponentLink3Description: http://www.farnell.com/datasheets/2571626.pdf?src-supplier=Newark; ComponentLink4URL: https://belfuse.com/resources/datasheets/circuitprotection/ds-cp-c1h-series.pdf?src-supplier=Digikey; ComponentLink4Description: https://belfuse.com/resources/datasheets/circuitprotection/ds-cp-c1h-series.pdf?src-supplier=Digikey; ComponentLink5URL: https://belfuse.com/resources/StewartConnector/C1H.pdf?src-supplier=Digikey; ComponentLink5Description: https://belfuse.com/resources/StewartConnector/C1H.pdf?src-supplier=Digikey; Supplier 1: Digikey; Supplier Part Number 1: 507-1942-1-ND; RoHS: Yes; Category: Fuses; Stock 1: 192825; Pricing 1: 1=0,32, 5=0,312, 10=0,298, 50=0,2662, 100=0,2479, 250=0,22036, 500=0,18362, 1000=0,17444 (USD); Value: 10A
footprint F_1206_3216
pins: 1, 2

## F_20A
designator F?, comment 20A
Fuse THT 15.5x6; Value: 20A
footprint F_15.5X6
pins: 1, 2

## F_20A_Holder_Panel
designator F?, comment 20A
Fuse THT Holder; Manufacturer: Littelfuse; Manufacturer Part Number: 03453RF2H; Color: Black; Material: Tin; Number of Circuits: 1; Voltage: 250V; Fuse Size: 3AG, 1-1/4" L x 1/4" Dia (31.8mm x 6.35mm); Illumination Type: Illuminated; Mounting Technology: Panel; Pins: 2; Contact Material: Copper Alloy; Contact Plating: Tin; Min Operating Temperature: -40°C; Max Operating Temperature: 85°C; Packaging: Bulk; Termination: Solder; Series: 345; Voltage Rating (DC): 250V; Current Rating: 20A; Package Quantity: 100; Number of Poles: 1; Voltage Rating: 250V; Voltage Rating (AC): 250V; Fuse Current: 20A; Lead Free: Lead Free; Flammability Rating: UL94 V-0; Reach SVHC Compliant: No; ComponentLink1URL: https://datasheet.ciiva.com/8036/169665-8036573.pdf?src-supplier=Element14; ComponentLink1Description: https://datasheet.ciiva.com/8036/169665-8036573.pdf?src-supplier=Element14; ComponentLink2URL: https://datasheet.ciiva.com/7494/internationalshocksafe-7494629.pdf?src-supplier=Digikey; ComponentLink2Description: https://datasheet.ciiva.com/7494/internationalshocksafe-7494629.pdf?src-supplier=Digikey; ComponentLink3URL: https://datasheet.ciiva.com/4479/internationalshocksafe-4479990.pdf?src-supplier=Mouser; ComponentLink3Description: https://datasheet.ciiva.com/4479/internationalshocksafe-4479990.pdf?src-supplier=Mouser; Supplier 1: Digikey; Supplier Part Number 1: F4900-ND; RoHS: Yes; Category: Fuse Holders; Stock 1: 51; Pricing 1: 1=6,65, 10=6,192, 100=4,0131, 1000=3,15316 (USD); Value: 20A
footprint F_PORTAFUSE-342 3D (Portafusible para ecosonda Chirp)
pins: 1, 2

## F_20A_Holder_Panel_2
designator F?, comment 20A
Fuse THT Holder; Manufacturer: Littelfuse; Manufacturer Part Number: 03420838H; Material: Thermoplastic; Color: Black; Number of Circuits: 1; Voltage: 250V; Fuse Size: 0.25 Dia x 1.26 L (6.35mm x 32mm); Illumination Type: Illuminated; Mounting Technology: Panel; Contact Material: Brass; Contact Plating: Nickel; Body Material: Thermoplastic; Min Operating Temperature: -40°C; Max Operating Temperature: 85°C; Termination: Quick Connect; Series: 342; Current Rating: 20A; Packaging: Bulk; Package Quantity: 100; Number of Poles: 1; Voltage Rating: 250V; Voltage Rating (DC): 250V; Voltage Rating (AC): 250V; Fuse Current: 20A; Diameter: 17.5mm; Length: 20.23mm; Depth: 17.53mm; Lead Free: Lead Free; Reach SVHC Compliant: No; ComponentLink1URL: https://datasheet.ciiva.com/27052/1711744-27052715.pdf?src-supplier=Jameco; ComponentLink1Description: https://datasheet.ciiva.com/27052/1711744-27052715.pdf?src-supplier=Jameco; ComponentLink2URL: https://datasheet.ciiva.com/16327/panelmount-342-344-340-16327880.pdf?src-supplier=Future+Electronics; ComponentLink2Description: https://datasheet.ciiva.com/16327/panelmount-342-344-340-16327880.pdf?src-supplier=Future+Electronics; ComponentLink3URL: https://datasheet.ciiva.com/295/panelmount-342-344-340-295603.pdf?src-supplier=Digikey; ComponentLink3Description: https://datasheet.ciiva.com/295/panelmount-342-344-340-295603.pdf?src-supplier=Digikey; ComponentLink4URL: https://datasheet.ciiva.com/1269/88928-1269455.pdf?src-supplier=Element14; ComponentLink4Description: https://datasheet.ciiva.com/1269/88928-1269455.pdf?src-supplier=Element14; Supplier 1: Mouser; Supplier Part Number 1: 576-03420838H; RoHS: Yes; Category: Fuse Holders; Stock 1: 1038; Pricing 1: 1=5,33, 10=4,97, 50=3,86, 100=3,22, 1000=2,53, 10000=2,3 (USD); Value: 20A
footprint F_PORTAFUSE-342 3D (Portafusible para ecosonda Chirp)
pins: 1, 2

## F_30A_500V_Holder_Blade
designator F?, comment 30A
Fuse THT Holder Blade; Manufacturer: Keystone Electronics; Manufacturer Part Number: 3568; Color: Black; Material: Brass,Tin,Nylon; Body Material: Nylon; Number of Poles: 1; Voltage: 500V; Current Rating: 20A; Illumination Type: Illuminated; Fuse Type: Automotive; Fuse Size: Mini ATO, ATC; Approvals: UL; Mounting Technology: Vertical,PCB; Contact Material: Brass,Tin; Contact Plating: Tin; Min Operating Temperature: -50°C; Max Operating Temperature: 145°C; Series: MINI® 297; Package Quantity: 1; Termination: PC Pin; Voltage Rating (AC): 500V; Number of Circuits: 1; Fuse Current: 20A; Orientation: Vertical; Flammability Rating: UL94 V-0; Reach SVHC Compliant: No; Lead Free: Lead Free; ComponentLink1URL: https://datasheet.ciiva.com/16294/m60-2p40-16294706.pdf?src-supplier=Future+Electronics; ComponentLink1Description: https://datasheet.ciiva.com/16294/m60-2p40-16294706.pdf?src-supplier=Future+Electronics; ComponentLink2URL: https://datasheet.ciiva.com/16874/70182101-16874378.pdf?src-supplier=Allied+Electronics; ComponentLink2Description: https://datasheet.ciiva.com/16874/70182101-16874378.pdf?src-supplier=Allied+Electronics; Supplier 1: Mouser; Supplier Part Number 1: 534-3568; RoHS: Yes; Category: Fuse Holders; Stock 1: 147207; Pricing 1: 1=1,08, 10=1,08, 50=0,927, 100=0,877, 1000=0,597, 10000=0,522 (USD); Value: 30A
footprint F_BLADE
pins: 1, 2

## F_500mA_32VDC
designator F?, comment 0.5A
Fuse SMD 0805; Manufacturer: Vishay; Manufacturer Part Number: MFU0805FF00500P100; Origin: TAIWAN; Current Rating: 500mA; Voltage Rating (DC): 32V; DC Cold Resistance: 570mR; Fuse Type: Board Mount (Cartridge Style Excluded); Approvals: UL; Published: 8-Jun-2000; LatestRevisionDate: 17-Jul-2002; LatestRevisionNote: Re-released for DXP Platform.; PackageReference: PIN-W2/E2.8; Publisher: Altium Limited; PackageDescription: Thru-Hole; 2 Leads; Supplier 1: Digi-Key; Supplier Part Number 1: SF-1206S200-2CT-ND; Mounting Technology: Surface Mount; Case/Package: 0805; Pins: 2; Case Code (Metric): 2012; Case Code (Imperial): 0805; Min Operating Temperature: -55°C; Max Operating Temperature: 125°C; Package Quantity: 1; Packaging: Cut Tape; Fuse Current: 500mA; Working Voltage: 32V; Series: MFU; Voltage Rating: 32V; Length: 0.079inch; Width: 0.049inch; Height: 0.018inch; Reach SVHC Compliant: No; RoHS Compliant: Yes; Lead Free: 5697LeadFree; ComponentLink1URL: https://datasheet.ciiva.com/16393/mfuserie-16393883.pdf?src-supplier=Future+Electronics; ComponentLink1Description: https://datasheet.ciiva.com/16393/mfuserie-16393883.pdf?src-supplier=Future+Electronics; ComponentLink2URL: https://datasheet.ciiva.com/11337/mfuserie-11337759.pdf?src-supplier=Avnet; ComponentLink2Description: https://datasheet.ciiva.com/11337/mfuserie-11337759.pdf?src-supplier=Avnet; ComponentLink3URL: https://datasheet.ciiva.com/8057/1480005-8057902.pdf?src-supplier=Element14; ComponentLink3Description: https://datasheet.ciiva.com/8057/1480005-8057902.pdf?src-supplier=Element14; ComponentLink4URL: https://datasheet.ciiva.com/7650/mfuserie-7650777.pdf?src-supplier=Element14; ComponentLink4Description: https://datasheet.ciiva.com/7650/mfuserie-7650777.pdf?src-supplier=Element14; Supplier 2: Mouser; Supplier Part Number 2: 594-MFU0805FF00500P1; RoHS: Yes; Category: Fuses; Stock 2: 5314; Pricing 2: 1=0,56, 10=0,455, 50=0,455, 100=0,344, 1000=0,257, 10000=0,231 (USD); Value: 0.5A
footprint F_0805_2012 (Chip Fuse; Body 2.0 x 1.3 mm (LxW typ))
pins: 1, 2

## F_?_1
designator F?, comment 0
(Generico) Fuse THT Holder 20mm; Value: 0
footprint F_20mm
pins: 1, 2

## F_?_2
designator F?, comment 0
(Generico) Fuse THT Holder; Value: 0
footprint F_PORTAFUSE-342 3D (Portafusible para ecosonda Chirp)
pins: 1, 2

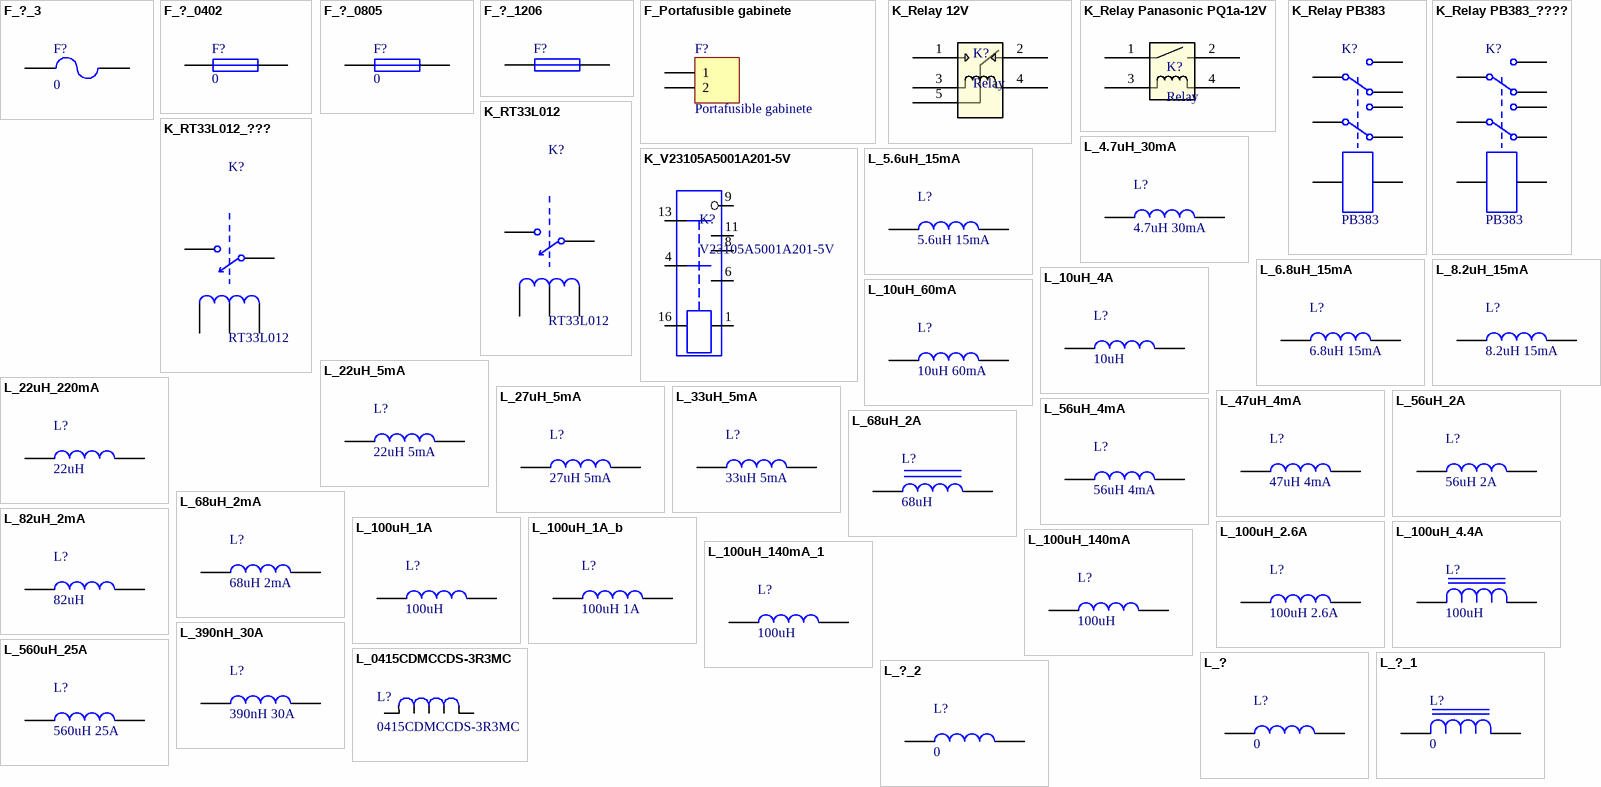
[diagram p5: symbols F_?_3 to L_?_2]

## F_?_3
designator F?, comment 0
(Generico) Fuse THT Holder Blade; Value: 0
footprint F_BLADE
pins: 1, 2

## F_?_0402
designator F?, comment 0
(Generico) Fuse SMD 0402; Value: 0
footprint F_0402_1005 (Chip Resistor; Body 1.1 x 0.5 mm (LxW typ))
pins: 1, 2

## F_?_0805
designator F?, comment 0
(Generico) Fuse SMD 0805; Origin: TAIWAN; Published: 8-Jun-2000; LatestRevisionDate: 17-Jul-2002; LatestRevisionNote: Re-released for DXP Platform.; PackageReference: PIN-W2/E2.8; Publisher: Altium Limited; PackageDescription: Thru-Hole; 2 Leads; Supplier 1: Digi-Key; Supplier Part Number 1: SF-1206S200-2CT-ND; Value: 0
footprint F_0805_2012 (Chip Fuse; Body 2.0 x 1.3 mm (LxW typ))
pins: 1, 2

## F_?_1206
designator F?, comment 0  (value not drawn)
(Generico) Fuse SMD 1206; Value: 0
footprint F_1206_3216
pins: 1, 2

## F_Portafusible gabinete
designator F?, comment Portafusible gabinete
(Generico) Fuse Holder 2pines; Value: Portafusible gabinete
footprint F_PORTAFUSE-342 3D (Portafusible para ecosonda Chirp)
pins: 1, 2

## K_Relay 12V
designator K?, comment Relay
(Modificar) Relay; Value: Relay
footprint K_12V
pins: 1, 2, 3, 4, 5

## K_Relay Panasonic PQ1a-12V
designator K?, comment Relay
(Modificar) Relay; Value: Relay
footprint K_Panasonic PQ1a-12V
pins: 1, 2, 3, 4

## K_Relay PB383
designator K?, comment PB383
(Modificar) Relay Dual-Pole Dual-Throw Relay; Value: PB383; Supplier 1: Newark; Supplier Part Number 1: 36AC8486; ComponentLink1Description: Datasheet; ComponentLink1URL: https://www.te.com/commerce/DocumentDelivery/DDEController?Action=srchrtrv&DocNm=108-98007&DocType=SS&DocLang=EN
footprint K_DIL
pins: 1, 4, 6, 8, 9, 11, 13, 16

## K_Relay PB383_????
designator K?, comment PB383
(Modificar) Relay Dual-Pole Dual-Throw Relay; Value: PB383
footprint K_DIL
pins: 1, 4, 6, 8, 9, 11, 13, 16

## K_RT33L012
designator K?, comment RT33L012
Relay GEN PURPOSE SPST 16A 12V; Manufacturer: Omron; Manufacturer Part Number: G5RL-K1A-E-DC5; Coil Voltage (DC): 5V; Coil Current: 150mA; Operate Time: 15ms; Coil Resistance: 33R; Relay Type: General Purpose; Coil Type: Latching, Dual Coil; Number of Contacts: 1NUMBER; Mounting Technology: Through Hole; Contact Material: Silver; Min Operating Temperature: -40°C; Max Operating Temperature: 85°C; Packaging: Rail/Tube; Throw Configuration: SPST; Termination: PC Pin; Contact Current Rating: 16A; Release Time: 15ms; Series: G5RL-K; Current Rating: 16A; Switching Current: 16A; Height: 15.7mm; Reach SVHC Compliant: No; ComponentLink1URL: http://www.mouser.com/ds/2/307/en-g5rl-531959.pdf?src-supplier=Mouser; ComponentLink1Description: http://www.mouser.com/ds/2/307/en-g5rl-531959.pdf?src-supplier=Mouser; ComponentLink2URL: https://datasheet.octopart.com/G5RLK1AEDC5-Omron-datasheet-28360223.pdf?src-supplier=Newark; ComponentLink2Description: https://datasheet.octopart.com/G5RLK1AEDC5-Omron-datasheet-28360223.pdf?src-supplier=Newark; ComponentLink3URL: https://omronfs.omron.com/en_US/ecb/products/pdf/en-g5rl_uk.pdf?src-supplier=Digikey; ComponentLink3Description: https://omronfs.omron.com/en_US/ecb/products/pdf/en-g5rl_uk.pdf?src-supplier=Digikey; ComponentLink4URL: https://datasheet.octopart.com/G5RL-K1A-EDC5-Omron-datasheet-87796982.pdf?src-supplier=Sager+Electronics; ComponentLink4Description: https://datasheet.octopart.com/G5RL-K1A-EDC5-Omron-datasheet-87796982.pdf?src-supplier=Sager+Electronics; ComponentLink5URL: https://datasheet.octopart.com/G5RL-K1A-E-DC5-Omron-datasheet-154765658.pdf?src-supplier=Master+Electronics; ComponentLink5Description: https://datasheet.octopart.com/G5RL-K1A-E-DC5-Omron-datasheet-154765658.pdf?src-supplier=Master+Electronics; Supplier 1: Mouser; Supplier Part Number 1: 653-G5RLK1AEDC5; RoHS: Yes; Category: Power Relays; Stock 1: 1431; Pricing 1: 1=4,84, 10=4,47, 50=3,83, 100=3,62, 1000=2,88, 10000=2,82 (USD); Value: RT33L012
footprint K_RT33L012
pins: 1, 2, 3, 11, 14

## K_RT33L012_???
designator K?, comment RT33L012
(Modificar) Relay GEN PURPOSE SPST 16A 12V; Value: RT33L012
footprint K_RT33L012
pins: 1, 2, 3, 11, 14

## K_V23105A5001A201-5V
designator K?, comment V23105A5001A201-5V
Value: V23105A5001A201-5V
footprint K_DIL
pins: 1, 4, 6, 8, 9 (power), 11, 13, 16

## L_4.7uH_30mA
designator L?, comment 4.7uH 30mA
Inductor SMD 0805; Manufacturer: Bourns; Manufacturer Part Number: CV201210-4R7K; Core Material: Ferrite; Tolerance: 10%; Shielding: Shielded; Self Resonant Frequency: 35MHz; Q Factor: 45; DC Resistance (DCR): 1R; Test Frequency: 10MHz; Current: 5mA; Mounting Technology: Surface Mount; Case/Package: 0805; Case Code (Metric): 2012; Case Code (Imperial): 0805; Weight: 0.000194oz; Min Operating Temperature: -55°C; Max Operating Temperature: 125°C; Packaging: Tape and Reel; Termination: SMD/SMT; Series: CV201210; Max DC Current: 30mA; Length: 2mm; Width: 1.25mm; Height: 1.25mm; RoHS Compliant: Yes; ComponentLink1URL: https://datasheet.ciiva.com/3866/41911685s8234392n1506-3866946.pdf?src-supplier=Arrow+Electronics; ComponentLink1Description: https://datasheet.ciiva.com/3866/41911685s8234392n1506-3866946.pdf?src-supplier=Arrow+Electronics; ComponentLink2URL: https://datasheet.ciiva.com/8516/cv201210-8516233.pdf?src-supplier=Avnet; ComponentLink2Description: https://datasheet.ciiva.com/8516/cv201210-8516233.pdf?src-supplier=Avnet; ComponentLink3URL: https://datasheet.ciiva.com/6701/cv201210-6701438.pdf?src-supplier=Digikey; ComponentLink3Description: https://datasheet.ciiva.com/6701/cv201210-6701438.pdf?src-supplier=Digikey; ComponentLink4URL: https://datasheet.ciiva.com/6701/cv201210-6701439.pdf?src-supplier=Digikey; ComponentLink4Description: https://datasheet.ciiva.com/6701/cv201210-6701439.pdf?src-supplier=Digikey; Supplier 1: Mouser; Supplier Part Number 1: 652-CV201210-4R7K; RoHS: Yes; Category: Fixed Inductors; Stock 1: 13357; Pricing 1: 1=0,1, 10=0,055, 50=0,055, 100=0,046, 1000=0,034, 10000=0,022 (USD); Value: 4.7uH 30mA
footprint L_0805_2013 (Chip Inductor; Body 2.0 x 1.3 mm (LxW typ))
pins: 1, 2

## L_5.6uH_15mA
designator L?, comment 5.6uH 15mA
Inductor SMD 0805; Manufacturer: Bourns; Manufacturer Part Number: CV201210-5R6K; Core Material: Ferrite; Self Resonant Frequency: 32MHz; Tolerance: 10%; Shielding: Shielded; DC Resistance (DCR): 900mR; Test Frequency: 4MHz; Mounting Technology: Surface Mount; Case/Package: 0805; Min Operating Temperature: -55°C; Max Operating Temperature: 125°C; Packaging: Tape and Reel; Package Quantity: 4000; Termination: SMD/SMT; Max DC Current: 15mA; Series: CV201210; Length: 2mm; Width: 1.25mm; Height: 1.25mm; RoHS Compliant: Yes; ComponentLink1URL: https://datasheet.ciiva.com/1067/cv201210-1067557.pdf?src-supplier=Digikey; ComponentLink1Description: https://datasheet.ciiva.com/1067/cv201210-1067557.pdf?src-supplier=Digikey; ComponentLink2URL: https://datasheet.ciiva.com/8516/cv201210-8516237.pdf?src-supplier=Avnet; ComponentLink2Description: https://datasheet.ciiva.com/8516/cv201210-8516237.pdf?src-supplier=Avnet; Supplier 1: Digikey; Supplier Part Number 1: 118-CV201210-5R6KCT-ND; RoHS: Yes; Category: Fixed Inductors; Stock 1: 25925; Pricing 1: 1=0,1, 10=0,068, 25=0,0624, 50=0,0552, 100=0,0483, 250=0,04596, 500=0,0432, 1000=0,03309 (USD); Value: 5.6uH 15mA
footprint L_0805_2013 (Chip Inductor; Body 2.0 x 1.3 mm (LxW typ))
pins: 1, 2

## L_6.8uH_15mA
designator L?, comment 6.8uH 15mA
Inductor SMD 0805; Manufacturer: Bourns; Manufacturer Part Number: CV201210-6R8K; Core Material: Ferrite; Tolerance: 10%; Shielding: Shielded; Self Resonant Frequency: 29MHz; Q Factor: 45; Current: 5mA; DC Resistance (DCR): 1R; Test Frequency: 4MHz; Mounting Technology: Surface Mount; Case/Package: 0805; Case Code (Metric): 2012; Case Code (Imperial): 0805; Weight: 0.000194oz; Min Operating Temperature: -55°C; Max Operating Temperature: 125°C; Packaging: Tape and Reel; Package Quantity: 1; Current Rating: 15mA; Max DC Current: 15mA; Termination: SMD/SMT; Series: CV201210; Length: 0.079inch; Width: 1.25mm; Height: 1.25mm; Height - Seated (Max): 0.058inch; RoHS Compliant: Yes; ComponentLink1URL: https://datasheet.ciiva.com/8516/cv201210-8516245.pdf?src-supplier=Avnet; ComponentLink1Description: https://datasheet.ciiva.com/8516/cv201210-8516245.pdf?src-supplier=Avnet; ComponentLink2URL: https://datasheet.ciiva.com/6701/cv201210-6701432.pdf?src-supplier=Digikey; ComponentLink2Description: https://datasheet.ciiva.com/6701/cv201210-6701432.pdf?src-supplier=Digikey; ComponentLink3URL: https://datasheet.ciiva.com/6701/cv201210-6701433.pdf?src-supplier=Digikey; ComponentLink3Description: https://datasheet.ciiva.com/6701/cv201210-6701433.pdf?src-supplier=Digikey; ComponentLink4URL: https://datasheet.ciiva.com/6701/cv201210-6701434.pdf?src-supplier=Digikey; ComponentLink4Description: https://datasheet.ciiva.com/6701/cv201210-6701434.pdf?src-supplier=Digikey; Supplier 1: Mouser; Supplier Part Number 1: 652-CV201210-6R8K; RoHS: Yes; Category: Fixed Inductors; Stock 1: 15634; Pricing 1: 1=0,1, 10=0,056, 50=0,056, 100=0,046, 1000=0,034, 10000=0,022 (USD); Value: 6.8uH 15mA
footprint L_0805_2013 (Chip Inductor; Body 2.0 x 1.3 mm (LxW typ))
pins: 1, 2

## L_8.2uH_15mA
designator L?, comment 8.2uH 15mA
Inductor SMD 0805; Manufacturer: Bourns; Manufacturer Part Number: CV201210-8R2K; Core Material: Ferrite; Tolerance: 10%; Shielding: Shielded; DC Resistance (DCR): 1.1R; Self Resonant Frequency: 26MHz; Test Frequency: 4MHz; Mounting Technology: Surface Mount; Case/Package: 0805; Min Operating Temperature: -55°C; Max Operating Temperature: 125°C; Package Quantity: 4000; Packaging: Tape and Reel; Termination: SMD/SMT; Max DC Current: 15mA; Series: CV201210; Length: 2mm; Width: 1.25mm; Height: 1.25mm; RoHS Compliant: Yes; ComponentLink1URL: https://datasheet.ciiva.com/1067/cv201210-1067559.pdf?src-supplier=Digikey; ComponentLink1Description: https://datasheet.ciiva.com/1067/cv201210-1067559.pdf?src-supplier=Digikey; ComponentLink2URL: https://datasheet.ciiva.com/8516/cv201210-8516252.pdf?src-supplier=Avnet; ComponentLink2Description: https://datasheet.ciiva.com/8516/cv201210-8516252.pdf?src-supplier=Avnet; Supplier 1: Mouser; Supplier Part Number 1: 652-CV201210-8R2K; RoHS: Yes; Category: Fixed Inductors; Stock 1: 8494; Pricing 1: 1=0,1, 10=0,056, 50=0,056, 100=0,046, 1000=0,034, 10000=0,022 (USD); Value: 8.2uH 15mA
footprint L_0805_2013 (Chip Inductor; Body 2.0 x 1.3 mm (LxW typ))
pins: 1, 2

## L_10uH_4A
designator L?, comment 10uH
Inductor SMD 6.6x7.3; Manufacturer: Pulse; Manufacturer Part Number: BMRF00060630100MA1; Supplier 1: Mouser; Supplier Part Number 1: 603-BMRF060630100MA1; RoHS: No; Category: Fixed Inductors; Stock 1: 1000; Pricing 1: 1=0,47, 10=0,334, 50=0,334, 100=0,24, 1000=0,211, 10000=0,191 (USD); Value: 10uH
footprint L_SMD_SRP7030
pins: 1, 2

## L_10uH_60mA
designator L?, comment 10uH 60mA
Inductor SMD 0805; Manufacturer: TDK; Manufacturer Part Number: MLZ2012E100MT000; Core Material: Ferrite; Tolerance: 20%; Shielding: Shielded; DC Resistance (DCR): 400mR; Test Frequency: 2MHz; Mounting Technology: Surface Mount; Case/Package: 0805; Min Operating Temperature: -55°C; Max Operating Temperature: 125°C; Series: MLZ; Lead Free: Lead Free; RoHS Compliant: Yes; ComponentLink1URL: http://datasheet.octopart.com/MLZ2012E100MT000-TDK-datasheet-37128881.pdf?src-supplier=Digikey; ComponentLink1Description: http://datasheet.octopart.com/MLZ2012E100MT000-TDK-datasheet-37128881.pdf?src-supplier=Digikey; ComponentLink2URL: http://datasheet.octopart.com/MLZ2012E100MT000-TDK-datasheet-37128881.pdf?src-supplier=Avnet; ComponentLink2Description: http://datasheet.octopart.com/MLZ2012E100MT000-TDK-datasheet-37128881.pdf?src-supplier=Avnet; ComponentLink3URL: http://datasheet.octopart.com/MLZ2012E100MT000-TDK-datasheet-37128881.pdf?src-supplier=Future+Electronics; ComponentLink3Description: http://datasheet.octopart.com/MLZ2012E100MT000-TDK-datasheet-37128881.pdf?src-supplier=Future+Electronics; ComponentLink4URL: http://datasheet.octopart.com/MLZ2012E100MT000-TDK-datasheet-37128881.pdf?src-supplier=Newark; ComponentLink4Description: http://datasheet.octopart.com/MLZ2012E100MT000-TDK-datasheet-37128881.pdf?src-supplier=Newark; ComponentLink5URL: http://datasheet.octopart.com/MLZ2012E100MT000-TDK-datasheet-37128881.pdf?src-supplier=TTI; ComponentLink5Description: http://datasheet.octopart.com/MLZ2012E100MT000-TDK-datasheet-37128881.pdf?src-supplier=TTI; Supplier 1: Digikey; Supplier Part Number 1: 445-MLZ2012E100MT000CT-ND; RoHS: Yes; Category: Fixed Inductors; Stock 1: 24671; Pricing 1: 1=0,1, 10=0,085, 25=0,0776, 50=0,0686, 100=0,06, 250=0,05716, 500=0,05374, 1000=0,04116 (USD); Value: 10uH 60mA
footprint L_0805_2013 (Chip Inductor; Body 2.0 x 1.3 mm (LxW typ))
pins: 1, 2